# Altium schematic symbol library SCH - MCU - RENESAS - RENESAS R7FS7G27XXXXXXFB 144LQFP.SchLib: 1 symbol
Pins are listed as number, name and electrical type; pins without a type are passive.

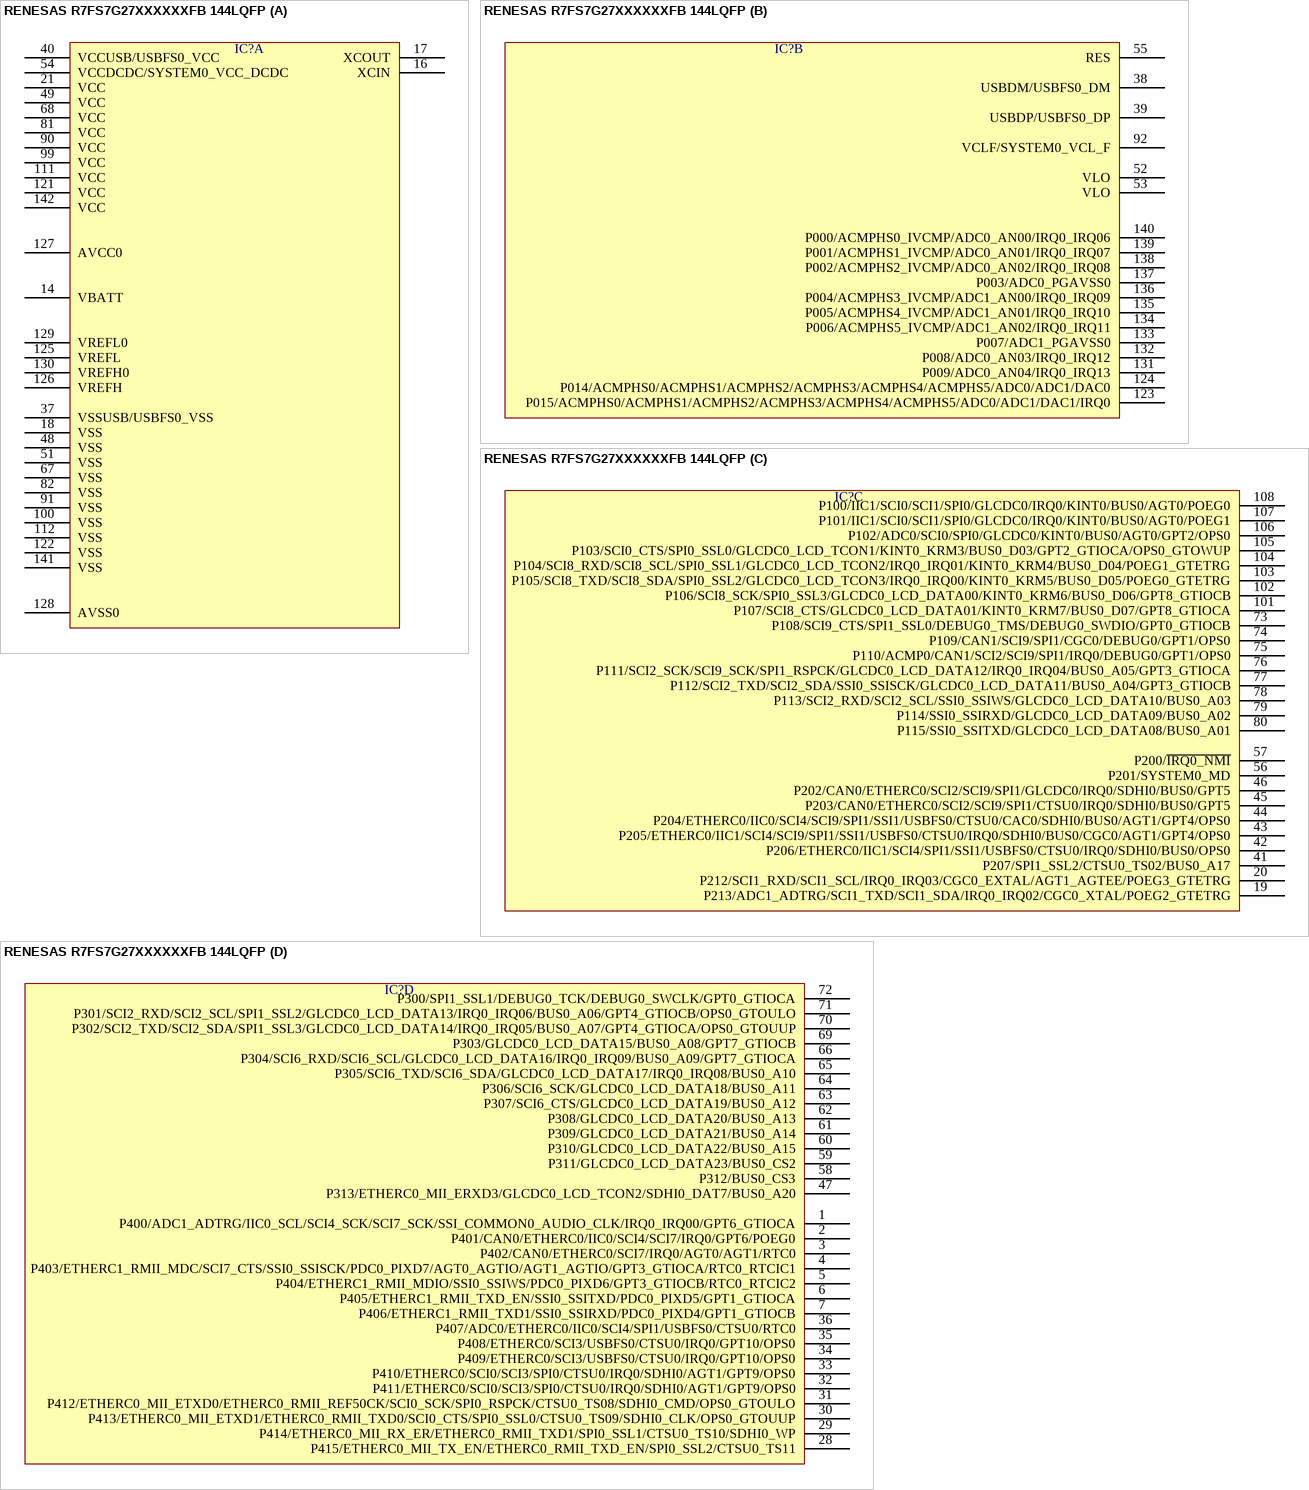
[diagram p0: symbol RENESAS R7FS7G27XXXXXXFB 144LQFP]

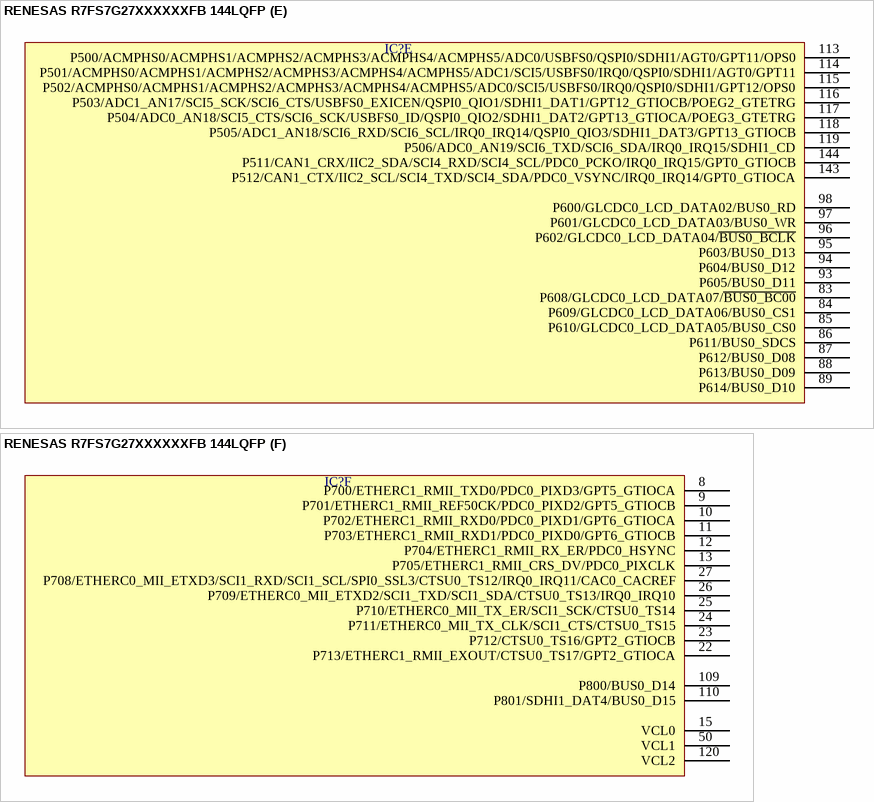
[diagram p1: symbol RENESAS R7FS7G27XXXXXXFB 144LQFP]

## RENESAS R7FS7G27XXXXXXFB 144LQFP
designator IC?  (value not drawn)
part A pins: 14 VBATT, 16 XCIN, 17 XCOUT, 18 VSS, 21 VCC, 37 VSSUSB/USBFS0_VSS, 40 VCCUSB/USBFS0_VCC, 48 VSS, 49 VCC, 51 VSS, 54 VCCDCDC/SYSTEM0_VCC_DCDC, 67 VSS, 68 VCC, 81 VCC, 82 VSS, 90 VCC, 91 VSS, 99 VCC, 100 VSS, 111 VCC, 112 VSS, 121 VCC, 122 VSS, 125 VREFL, 126 VREFH, 127 AVCC0, 128 AVSS0, 129 VREFL0, 130 VREFH0, 141 VSS, 142 VCC
part B pins: 38 USBDM/USBFS0_DM, 39 USBDP/USBFS0_DP, 52 VLO, 53 VLO, 55 RES, 92 VCLF/SYSTEM0_VCL_F, 123 P015/ACMPHS0/ACMPHS1/ACMPHS2/ACMPHS3/ACMPHS4/ACMPHS5/ADC0/ADC1/DAC1/IRQ0, 124 P014/ACMPHS0/ACMPHS1/ACMPHS2/ACMPHS3/ACMPHS4/ACMPHS5/ADC0/ADC1/DAC0, 131 P009/ADC0_AN04/IRQ0_IRQ13, 132 P008/ADC0_AN03/IRQ0_IRQ12, 133 P007/ADC1_PGAVSS0, 134 P006/ACMPHS5_IVCMP/ADC1_AN02/IRQ0_IRQ11, 135 P005/ACMPHS4_IVCMP/ADC1_AN01/IRQ0_IRQ10, 136 P004/ACMPHS3_IVCMP/ADC1_AN00/IRQ0_IRQ09, 137 P003/ADC0_PGAVSS0, 138 P002/ACMPHS2_IVCMP/ADC0_AN02/IRQ0_IRQ08, 139 P001/ACMPHS1_IVCMP/ADC0_AN01/IRQ0_IRQ07, 140 P000/ACMPHS0_IVCMP/ADC0_AN00/IRQ0_IRQ06
part C pins: 19 P213/ADC1_ADTRG/SCI1_TXD/SCI1_SDA/IRQ0_IRQ02/CGC0_XTAL/POEG2_GTETRG, 20 P212/SCI1_RXD/SCI1_SCL/IRQ0_IRQ03/CGC0_EXTAL/AGT1_AGTEE/POEG3_GTETRG, 41 P207/SPI1_SSL2/CTSU0_TS02/BUS0_A17, 42 P206/ETHERC0/IIC1/SCI4/SPI1/SSI1/USBFS0/CTSU0/IRQ0/SDHI0/BUS0/OPS0, 43 P205/ETHERC0/IIC1/SCI4/SCI9/SPI1/SSI1/USBFS0/CTSU0/IRQ0/SDHI0/BUS0/CGC0/AGT1/GPT4/OPS0, 44 P204/ETHERC0/IIC0/SCI4/SCI9/SPI1/SSI1/USBFS0/CTSU0/CAC0/SDHI0/BUS0/AGT1/GPT4/OPS0, 45 P203/CAN0/ETHERC0/SCI2/SCI9/SPI1/CTSU0/IRQ0/SDHI0/BUS0/GPT5, 46 P202/CAN0/ETHERC0/SCI2/SCI9/SPI1/GLCDC0/IRQ0/SDHI0/BUS0/GPT5, 56 P201/SYSTEM0_MD, 57 P200/~{IRQ0_NMI}, 73 P108/SCI9_CTS/SPI1_SSL0/DEBUG0_TMS/DEBUG0_SWDIO/GPT0_GTIOCB, 74 P109/CAN1/SCI9/SPI1/CGC0/DEBUG0/GPT1/OPS0, 75 P110/ACMP0/CAN1/SCI2/SCI9/SPI1/IRQ0/DEBUG0/GPT1/OPS0, 76 P111/SCI2_SCK/SCI9_SCK/SPI1_RSPCK/GLCDC0_LCD_DATA12/IRQ0_IRQ04/BUS0_A05/GPT3_GTIOCA, 77 P112/SCI2_TXD/SCI2_SDA/SSI0_SSISCK/GLCDC0_LCD_DATA11/BUS0_A04/GPT3_GTIOCB, 78 P113/SCI2_RXD/SCI2_SCL/SSI0_SSIWS/GLCDC0_LCD_DATA10/BUS0_A03, 79 P114/SSI0_SSIRXD/GLCDC0_LCD_DATA09/BUS0_A02, 80 P115/SSI0_SSITXD/GLCDC0_LCD_DATA08/BUS0_A01, 101 P107/SCI8_CTS/GLCDC0_LCD_DATA01/KINT0_KRM7/BUS0_D07/GPT8_GTIOCA, 102 P106/SCI8_SCK/SPI0_SSL3/GLCDC0_LCD_DATA00/KINT0_KRM6/BUS0_D06/GPT8_GTIOCB, 103 P105/SCI8_TXD/SCI8_SDA/SPI0_SSL2/GLCDC0_LCD_TCON3/IRQ0_IRQ00/KINT0_KRM5/BUS0_D05/POEG0_GTETRG, 104 P104/SCI8_RXD/SCI8_SCL/SPI0_SSL1/GLCDC0_LCD_TCON2/IRQ0_IRQ01/KINT0_KRM4/BUS0_D04/POEG1_GTETRG, 105 P103/SCI0_CTS/SPI0_SSL0/GLCDC0_LCD_TCON1/KINT0_KRM3/BUS0_D03/GPT2_GTIOCA/OPS0_GTOWUP, 106 P102/ADC0/SCI0/SPI0/GLCDC0/KINT0/BUS0/AGT0/GPT2/OPS0, 107 P101/IIC1/SCI0/SCI1/SPI0/GLCDC0/IRQ0/KINT0/BUS0/AGT0/POEG1, 108 P100/IIC1/SCI0/SCI1/SPI0/GLCDC0/IRQ0/KINT0/BUS0/AGT0/POEG0
part D pins: 1 P400/ADC1_ADTRG/IIC0_SCL/SCI4_SCK/SCI7_SCK/SSI_COMMON0_AUDIO_CLK/IRQ0_IRQ00/GPT6_GTIOCA, 2 P401/CAN0/ETHERC0/IIC0/SCI4/SCI7/IRQ0/GPT6/POEG0, 3 P402/CAN0/ETHERC0/SCI7/IRQ0/AGT0/AGT1/RTC0, 4 P403/ETHERC1_RMII_MDC/SCI7_CTS/SSI0_SSISCK/PDC0_PIXD7/AGT0_AGTIO/AGT1_AGTIO/GPT3_GTIOCA/RTC0_RTCIC1, 5 P404/ETHERC1_RMII_MDIO/SSI0_SSIWS/PDC0_PIXD6/GPT3_GTIOCB/RTC0_RTCIC2, 6 P405/ETHERC1_RMII_TXD_EN/SSI0_SSITXD/PDC0_PIXD5/GPT1_GTIOCA, 7 P406/ETHERC1_RMII_TXD1/SSI0_SSIRXD/PDC0_PIXD4/GPT1_GTIOCB, 28 P415/ETHERC0_MII_TX_EN/ETHERC0_RMII_TXD_EN/SPI0_SSL2/CTSU0_TS11, 29 P414/ETHERC0_MII_RX_ER/ETHERC0_RMII_TXD1/SPI0_SSL1/CTSU0_TS10/SDHI0_WP, 30 P413/ETHERC0_MII_ETXD1/ETHERC0_RMII_TXD0/SCI0_CTS/SPI0_SSL0/CTSU0_TS09/SDHI0_CLK/OPS0_GTOUUP, 31 P412/ETHERC0_MII_ETXD0/ETHERC0_RMII_REF50CK/SCI0_SCK/SPI0_RSPCK/CTSU0_TS08/SDHI0_CMD/OPS0_GTOULO, 32 P411/ETHERC0/SCI0/SCI3/SPI0/CTSU0/IRQ0/SDHI0/AGT1/GPT9/OPS0, 33 P410/ETHERC0/SCI0/SCI3/SPI0/CTSU0/IRQ0/SDHI0/AGT1/GPT9/OPS0, 34 P409/ETHERC0/SCI3/USBFS0/CTSU0/IRQ0/GPT10/OPS0, 35 P408/ETHERC0/SCI3/USBFS0/CTSU0/IRQ0/GPT10/OPS0, 36 P407/ADC0/ETHERC0/IIC0/SCI4/SPI1/USBFS0/CTSU0/RTC0, 47 P313/ETHERC0_MII_ERXD3/GLCDC0_LCD_TCON2/SDHI0_DAT7/BUS0_A20, 58 P312/BUS0_CS3, 59 P311/GLCDC0_LCD_DATA23/BUS0_CS2, 60 P310/GLCDC0_LCD_DATA22/BUS0_A15, 61 P309/GLCDC0_LCD_DATA21/BUS0_A14, 62 P308/GLCDC0_LCD_DATA20/BUS0_A13, 63 P307/SCI6_CTS/GLCDC0_LCD_DATA19/BUS0_A12, 64 P306/SCI6_SCK/GLCDC0_LCD_DATA18/BUS0_A11, 65 P305/SCI6_TXD/SCI6_SDA/GLCDC0_LCD_DATA17/IRQ0_IRQ08/BUS0_A10, 66 P304/SCI6_RXD/SCI6_SCL/GLCDC0_LCD_DATA16/IRQ0_IRQ09/BUS0_A09/GPT7_GTIOCA, 69 P303/GLCDC0_LCD_DATA15/BUS0_A08/GPT7_GTIOCB, 70 P302/SCI2_TXD/SCI2_SDA/SPI1_SSL3/GLCDC0_LCD_DATA14/IRQ0_IRQ05/BUS0_A07/GPT4_GTIOCA/OPS0_GTOUUP, 71 P301/SCI2_RXD/SCI2_SCL/SPI1_SSL2/GLCDC0_LCD_DATA13/IRQ0_IRQ06/BUS0_A06/GPT4_GTIOCB/OPS0_GTOULO, 72 P300/SPI1_SSL1/DEBUG0_TCK/DEBUG0_SWCLK/GPT0_GTIOCA
part E pins: 83 P608/GLCDC0_LCD_DATA07/~{BUS0_BC00}, 84 P609/GLCDC0_LCD_DATA06/BUS0_CS1, 85 P610/GLCDC0_LCD_DATA05/BUS0_CS0, 86 P611/BUS0_SDCS, 87 P612/BUS0_D08, 88 P613/BUS0_D09, 89 P614/BUS0_D10, 93 P605/BUS0_D11, 94 P604/BUS0_D12, 95 P603/BUS0_D13, 96 P602/GLCDC0_LCD_DATA04/~{BUS0_BCLK}, 97 P601/GLCDC0_LCD_DATA03/BUS0_WR, 98 P600/GLCDC0_LCD_DATA02/BUS0_RD, 113 P500/ACMPHS0/ACMPHS1/ACMPHS2/ACMPHS3/ACMPHS4/ACMPHS5/ADC0/USBFS0/QSPI0/SDHI1/AGT0/GPT11/OPS0, 114 P501/ACMPHS0/ACMPHS1/ACMPHS2/ACMPHS3/ACMPHS4/ACMPHS5/ADC1/SCI5/USBFS0/IRQ0/QSPI0/SDHI1/AGT0/GPT11, 115 P502/ACMPHS0/ACMPHS1/ACMPHS2/ACMPHS3/ACMPHS4/ACMPHS5/ADC0/SCI5/USBFS0/IRQ0/QSPI0/SDHI1/GPT12/OPS0, 116 P503/ADC1_AN17/SCI5_SCK/SCI6_CTS/USBFS0_EXICEN/QSPI0_QIO1/SDHI1_DAT1/GPT12_GTIOCB/POEG2_GTETRG, 117 P504/ADC0_AN18/SCI5_CTS/SCI6_SCK/USBFS0_ID/QSPI0_QIO2/SDHI1_DAT2/GPT13_GTIOCA/POEG3_GTETRG, 118 P505/ADC1_AN18/SCI6_RXD/SCI6_SCL/IRQ0_IRQ14/QSPI0_QIO3/SDHI1_DAT3/GPT13_GTIOCB, 119 P506/ADC0_AN19/SCI6_TXD/SCI6_SDA/IRQ0_IRQ15/SDHI1_CD, 143 P512/CAN1_CTX/IIC2_SCL/SCI4_TXD/SCI4_SDA/PDC0_VSYNC/IRQ0_IRQ14/GPT0_GTIOCA, 144 P511/CAN1_CRX/IIC2_SDA/SCI4_RXD/SCI4_SCL/PDC0_PCKO/IRQ0_IRQ15/GPT0_GTIOCB
part F pins: 8 P700/ETHERC1_RMII_TXD0/PDC0_PIXD3/GPT5_GTIOCA, 9 P701/ETHERC1_RMII_REF50CK/PDC0_PIXD2/GPT5_GTIOCB, 10 P702/ETHERC1_RMII_RXD0/PDC0_PIXD1/GPT6_GTIOCA, 11 P703/ETHERC1_RMII_RXD1/PDC0_PIXD0/GPT6_GTIOCB, 12 P704/ETHERC1_RMII_RX_ER/PDC0_HSYNC, 13 P705/ETHERC1_RMII_CRS_DV/PDC0_PIXCLK, 15 VCL0, 22 P713/ETHERC1_RMII_EXOUT/CTSU0_TS17/GPT2_GTIOCA, 23 P712/CTSU0_TS16/GPT2_GTIOCB, 24 P711/ETHERC0_MII_TX_CLK/SCI1_CTS/CTSU0_TS15, 25 P710/ETHERC0_MII_TX_ER/SCI1_SCK/CTSU0_TS14, 26 P709/ETHERC0_MII_ETXD2/SCI1_TXD/SCI1_SDA/CTSU0_TS13/IRQ0_IRQ10, 27 P708/ETHERC0_MII_ETXD3/SCI1_RXD/SCI1_SCL/SPI0_SSL3/CTSU0_TS12/IRQ0_IRQ11/CAC0_CACREF, 50 VCL1, 109 P800/BUS0_D14, 110 P801/SDHI1_DAT4/BUS0_D15, 120 VCL2